# Altium schematic symbol library 2201778-1.SchLib: 1 symbol
Pins are listed as number, name and electrical type; pins without a type are passive.

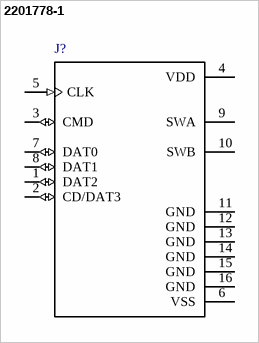
[diagram p0: symbol 2201778-1]

## 2201778-1
designator J?  (value not drawn)
MICRO SD PUSH PUSH LOW PROFILE TYPE; Number_of_Positions: 8; Product_Type: Removable Memory Products; Centerline_Pitch: 1.1 mm[.04 in]; MF: TE Connectivity; Price: 1.68 USD; SnapEDA_Link: https://www.snapeda.com/parts/2201778-1/TE%20Connectivity%20AMP%20Connectors/view-part/?ref=snap; MP: 2201778-1; EU_RoHS_Compliance: Compliant; Availability: Good; Link: http://www.te.com/usa-en/product-2201778-1.html; Package: None; Value: *
footprint TE_2201778-1
pins: 1 DAT2 (io), 2 CD/DAT3 (io), 3 CMD (io), 4 VDD (power), 5 CLK (in), 6 VSS (power), 7 DAT0 (io), 8 DAT1 (io), 9 SWA, 10 SWB, 11 GND (power), 12 GND (power), 13 GND (power), 14 GND (power), 15 GND (power), 16 GND (power)